# Altium footprint library Symbol.PcbLib: 206 footprints (part 9 of 15)
Each footprint in its own frame and in the unit in brackets; x right, y up, seen from the top. Pads: shape width x height; smd on the part's side, far side on the other; paste and mask are expansions set on the pad; w line width, h text height; cw(c..) or ccw(c..) is an arc to the next point about the centre after c.
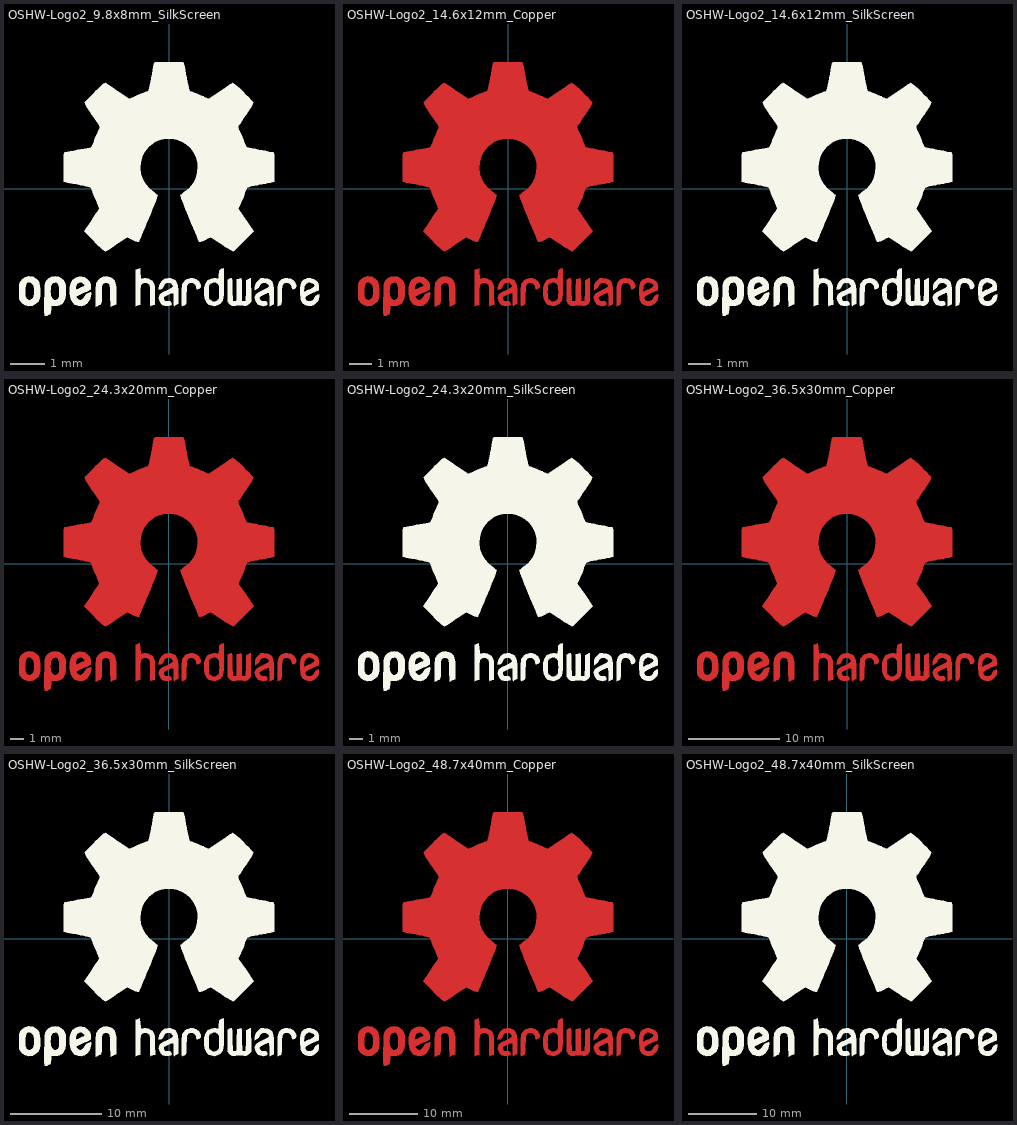
[diagram p8: the footprints below, top view; thin cyan lines are the x and y axes]

## OSHW-Logo2_9.8x8mm_SilkScreen [mm]
F.SilkS:
  drawing of 13 lines, arcs and shapes, not listed

## OSHW-Logo2_14.6x12mm_Copper [mm]
F.Cu:
  region: 5.336,-3.94 5.371,-3.955 5.454,-4.021 5.525,-4.117 5.569,-4.218 5.576,-4.269 5.552,-4.339 5.5,-4.376 5.443,-4.398 5.417,-4.402 5.405,-4.372 5.38,-4.307 5.369,-4.277 5.308,-4.175 5.219,-4.124 5.105,-4.126 5.097,-4.128 5.036,-4.157 4.991,-4.213 4.961,-4.303 4.943,-4.435 4.935,-4.614 4.934,-4.709 4.934,-4.86 4.931,-4.962 4.925,-5.028 4.912,-5.066 4.892,-5.088 4.861,-5.104 4.86,-5.105 4.801,-5.129 4.772,-5.138 4.768,-5.111 4.764,-5.035 4.761,-4.92 4.759,-4.775 4.759,-4.67 4.761,-4.466 4.767,-4.311 4.782,-4.196 4.806,-4.113 4.842,-4.051 4.893,-4.003 4.943,-3.969 5.063,-3.925 5.204,-3.915
  region: -2.583,-3.878 -2.489,-3.932 -2.424,-3.986 -2.376,-4.042 -2.343,-4.111 -2.323,-4.202 -2.311,-4.327 -2.307,-4.493 -2.306,-4.613 -2.306,-5.054 -2.431,-5.109 -2.555,-5.165 -2.569,-4.682 -2.575,-4.502 -2.582,-4.371 -2.589,-4.281 -2.6,-4.222 -2.614,-4.185 -2.634,-4.163 -2.64,-4.158 -2.736,-4.12 -2.833,-4.135 -2.89,-4.175 -2.914,-4.203 -2.93,-4.241 -2.94,-4.297 -2.946,-4.383 -2.948,-4.51 -2.949,-4.641 -2.949,-4.806 -2.952,-4.923 -2.961,-5.002 -2.981,-5.052 -3.015,-5.086 -3.068,-5.112 -3.138,-5.138 -3.215,-5.168 -3.206,-4.649 -3.202,-4.463 -3.198,-4.324 -3.192,-4.226 -3.183,-4.156 -3.169,-4.107 -3.15,-4.067 -3.127,-4.033 -3.015,-3.922 -2.878,-3.858 -2.73,-3.842
  region: 1.066,-3.922 1.199,-3.971 1.306,-4.057 1.348,-4.118 1.394,-4.23 1.393,-4.311 1.345,-4.365 1.327,-4.375 1.25,-4.403 1.211,-4.396 1.198,-4.348 1.197,-4.321 1.173,-4.223 1.109,-4.154 1.021,-4.12 0.923,-4.129 0.843,-4.172 0.816,-4.197 0.796,-4.227 0.783,-4.273 0.775,-4.343 0.77,-4.45 0.765,-4.602 0.764,-4.65 0.76,-4.815 0.756,-4.931 0.749,-5.008 0.738,-5.055 0.722,-5.082 0.698,-5.098 0.683,-5.105 0.618,-5.13 0.58,-5.138 0.567,-5.111 0.559,-5.029 0.556,-4.89 0.558,-4.694 0.559,-4.664 0.563,-4.485 0.569,-4.355 0.576,-4.262 0.587,-4.198 0.603,-4.151 0.626,-4.111 0.637,-4.094 0.705,-4.019 0.78,-3.961 0.789,-3.956 0.924,-3.915
  region: 3.58,-3.94 3.585,-4.017 3.588,-4.133 3.59,-4.281 3.591,-4.435 3.591,-4.959 3.499,-5.051 3.435,-5.108 3.379,-5.131 3.303,-5.13 3.272,-5.126 3.178,-5.115 3.099,-5.109 3.08,-5.108 3.016,-5.112 2.924,-5.121 2.888,-5.126 2.8,-5.133 2.741,-5.118 2.683,-5.072 2.662,-5.051 2.569,-4.959 2.569,-3.98 2.644,-3.946 2.708,-3.921 2.745,-3.912 2.755,-3.94 2.764,-4.018 2.771,-4.136 2.777,-4.288 2.78,-4.416 2.788,-4.919 2.858,-4.929 2.921,-4.922 2.952,-4.9 2.961,-4.858 2.968,-4.77 2.974,-4.645 2.977,-4.496 2.977,-4.419 2.978,-3.976 3.07,-3.944 3.135,-3.922 3.17,-3.912 3.171,-3.912 3.175,-3.94 3.179,-4.016 3.183,-4.133 3.186,-4.279 3.189,-4.416 3.197,-4.919 3.372,-4.919 3.38,-4.46 3.388,-4.001 3.474,-3.956 3.537,-3.926 3.574,-3.912 3.575,-3.912
  region: -1.255,-3.724 -1.247,-3.843 -1.237,-3.914 -1.223,-3.944 -1.203,-3.945 -1.197,-3.941 -1.111,-3.914 -0.999,-3.916 -0.886,-3.943 -0.814,-3.978 -0.742,-4.035 -0.688,-4.099 -0.652,-4.18 -0.629,-4.288 -0.617,-4.433 -0.613,-4.624 -0.613,-4.661 -0.613,-5.074 -0.705,-5.106 -0.77,-5.128 -0.806,-5.138 -0.807,-5.138 -0.811,-5.111 -0.814,-5.035 -0.816,-4.921 -0.817,-4.778 -0.817,-4.691 -0.818,-4.52 -0.82,-4.397 -0.825,-4.313 -0.834,-4.258 -0.849,-4.221 -0.871,-4.193 -0.885,-4.18 -0.979,-4.126 -1.082,-4.122 -1.175,-4.168 -1.192,-4.184 -1.217,-4.215 -1.235,-4.252 -1.246,-4.304 -1.252,-4.384 -1.255,-4.501 -1.255,-4.663 -1.255,-5.074 -1.347,-5.106 -1.413,-5.128 -1.448,-5.138 -1.45,-5.138 -1.452,-5.11 -1.455,-5.032 -1.457,-4.909 -1.458,-4.751 -1.459,-4.565 -1.46,-4.358 -1.46,-4.349 -1.46,-3.559 -1.365,-3.519 -1.27,-3.479
  region: -5.952,-3.866 -5.815,-3.938 -5.714,-4.054 -5.678,-4.128 -5.65,-4.24 -5.636,-4.381 -5.635,-4.535 -5.645,-4.686 -5.668,-4.816 -5.701,-4.91 -5.711,-4.926 -5.833,-5.046 -5.977,-5.118 -6.133,-5.139 -6.291,-5.107 -6.335,-5.087 -6.42,-5.027 -6.496,-4.947 -6.503,-4.937 -6.532,-4.888 -6.551,-4.836 -6.562,-4.767 -6.567,-4.669 -6.569,-4.528 -6.569,-4.496 -6.569,-4.486 -6.568,-4.346 -6.563,-4.241 -6.553,-4.168 -6.536,-4.114 -6.509,-4.067 -6.503,-4.058 -6.404,-3.939 -6.296,-3.87 -6.164,-3.843 -6.119,-3.841 hole: -6.109,-4.117 -6.181,-4.128 -6.23,-4.167 -6.26,-4.242 -6.274,-4.361 -6.277,-4.486 -6.275,-4.619 -6.269,-4.708 -6.255,-4.765 -6.231,-4.804 -6.219,-4.817 -6.149,-4.867 -6.081,-4.865 -6.012,-4.822 -5.971,-4.775 -5.947,-4.708 -5.934,-4.601 -5.933,-4.589 -5.93,-4.396 -5.955,-4.253 -6.005,-4.16 -6.082,-4.119
  region: 6.343,-3.957 6.459,-4.032 6.515,-4.1 6.559,-4.222 6.562,-4.319 6.554,-4.449 6.255,-4.58 6.11,-4.647 6.015,-4.701 5.965,-4.747 5.957,-4.793 5.984,-4.843 6.014,-4.876 6.102,-4.929 6.198,-4.932 6.286,-4.891 6.351,-4.809 6.362,-4.78 6.418,-4.69 6.482,-4.651 6.569,-4.618 6.569,-4.743 6.561,-4.828 6.531,-4.9 6.468,-4.982 6.458,-4.993 6.388,-5.066 6.327,-5.106 6.251,-5.124 6.188,-5.13 6.075,-5.131 5.995,-5.113 5.945,-5.085 5.867,-5.024 5.812,-4.958 5.778,-4.874 5.759,-4.762 5.752,-4.609 5.752,-4.531 5.754,-4.438 5.755,-4.349 5.769,-4.215 5.797,-4.117 5.842,-4.045 5.907,-3.988 5.935,-3.969 6.065,-3.921 6.206,-3.918 hole: 6.194,-4.116 6.095,-4.124 6.013,-4.18 5.956,-4.279 5.937,-4.357 5.93,-4.438 5.932,-4.488 5.937,-4.496 5.971,-4.485 6.043,-4.455 6.14,-4.414 6.16,-4.405 6.282,-4.342 6.35,-4.288 6.364,-4.237 6.329,-4.185 6.3,-4.162
  region: 2.394,-4.154 2.394,-4.373 2.392,-4.541 2.389,-4.666 2.384,-4.757 2.375,-4.822 2.364,-4.869 2.348,-4.906 2.336,-4.927 2.236,-5.041 2.111,-5.112 1.971,-5.138 1.832,-5.114 1.749,-5.072 1.662,-4.999 1.602,-4.911 1.566,-4.794 1.55,-4.639 1.547,-4.525 1.548,-4.517 1.555,-4.342 1.578,-4.204 1.624,-4.101 1.694,-4.02 1.749,-3.978 1.848,-3.934 1.964,-3.913 2.071,-3.919 2.131,-3.941 2.155,-3.947 2.17,-3.924 2.181,-3.86 2.19,-3.763 2.199,-3.655 2.211,-3.589 2.234,-3.552 2.274,-3.528 2.299,-3.517 2.394,-3.477 hole: 1.936,-4.121 1.838,-4.164 1.819,-4.18 1.787,-4.215 1.767,-4.258 1.757,-4.32 1.752,-4.417 1.752,-4.517 1.753,-4.648 1.759,-4.734 1.772,-4.791 1.795,-4.832 1.823,-4.862 1.918,-4.922 2.019,-4.927 2.115,-4.877 2.122,-4.871 2.154,-4.836 2.174,-4.794 2.185,-4.732 2.189,-4.636 2.19,-4.529 2.188,-4.396 2.182,-4.307 2.169,-4.248 2.145,-4.206 2.126,-4.184 2.038,-4.128
  region: -3.684,-3.885 -3.569,-3.962 -3.48,-4.074 -3.427,-4.216 -3.417,-4.321 -3.418,-4.365 -3.428,-4.398 -3.456,-4.428 -3.511,-4.461 -3.601,-4.505 -3.736,-4.565 -3.737,-4.565 -3.861,-4.622 -3.963,-4.673 -4.032,-4.711 -4.058,-4.733 -4.035,-4.78 -3.982,-4.831 -3.921,-4.868 -3.889,-4.876 -3.805,-4.85 -3.732,-4.786 -3.696,-4.716 -3.662,-4.664 -3.595,-4.605 -3.516,-4.554 -3.446,-4.527 -3.432,-4.525 -3.415,-4.55 -3.414,-4.614 -3.426,-4.701 -3.449,-4.792 -3.48,-4.873 -3.482,-4.877 -3.575,-5.007 -3.696,-5.095 -3.833,-5.139 -3.975,-5.134 -4.112,-5.077 -4.118,-5.073 -4.225,-4.975 -4.296,-4.848 -4.335,-4.682 -4.34,-4.635 -4.349,-4.413 -4.338,-4.31 -4.33,-4.236 -4.281,-4.096 -4.213,-3.997 -4.09,-3.898 -3.954,-3.849 -3.816,-3.846 hole: -3.915,-4.119 -3.991,-4.157 -4.043,-4.23 -4.058,-4.31 -4.055,-4.375 -4.035,-4.393 -3.985,-4.379 -3.907,-4.346 -3.819,-4.304 -3.817,-4.303 -3.743,-4.264 -3.713,-4.238 -3.721,-4.211 -3.751,-4.175 -3.83,-4.123
  region: 0.08,-3.924 0.194,-3.967 0.196,-3.968 0.266,-4.02 0.319,-4.081 0.355,-4.16 0.38,-4.267 0.394,-4.413 0.403,-4.605 0.404,-4.633 0.414,-5.047 0.325,-5.092 0.261,-5.123 0.222,-5.138 0.22,-5.138 0.214,-5.111 0.208,-5.038 0.205,-4.931 0.204,-4.844 0.204,-4.704 0.198,-4.616 0.176,-4.574 0.128,-4.572 0.045,-4.604 -0.08,-4.662 -0.172,-4.711 -0.22,-4.753 -0.234,-4.799 -0.234,-4.801 -0.211,-4.88 -0.143,-4.923 -0.039,-4.929 0.036,-4.928 0.076,-4.95 0.1,-5.002 0.115,-5.068 0.094,-5.105 0.087,-5.11 0.014,-5.132 -0.087,-5.135 -0.192,-5.121 -0.266,-5.095 -0.368,-5.008 -0.426,-4.887 -0.438,-4.792 -0.429,-4.707 -0.397,-4.637 -0.334,-4.576 -0.232,-4.514 -0.082,-4.444 -0.073,-4.44 0.062,-4.378 0.145,-4.326 0.181,-4.28 0.173,-4.234 0.126,-4.18 0.112,-4.168 0.017,-4.12 -0.081,-4.122 -0.166,-4.169 -0.223,-4.256 -0.228,-4.273 -0.279,-4.356 -0.344,-4.395 -0.438,-4.435 -0.438,-4.333 -0.409,-4.184 -0.325,-4.048 -0.28,-4.002 -0.18,-3.944 -0.052,-3.917
  region: -4.828,-3.862 -4.717,-3.918 -4.618,-4.02 -4.591,-4.058 -4.561,-4.108 -4.542,-4.161 -4.531,-4.233 -4.526,-4.337 -4.525,-4.474 -4.53,-4.662 -4.547,-4.803 -4.58,-4.908 -4.632,-4.988 -4.706,-5.055 -4.711,-5.059 -4.785,-5.099 -4.873,-5.119 -4.985,-5.124 -5.167,-5.124 -5.168,-5.301 -5.169,-5.399 -5.18,-5.457 -5.207,-5.492 -5.258,-5.521 -5.271,-5.527 -5.329,-5.555 -5.374,-5.573 -5.407,-5.574 -5.431,-5.554 -5.446,-5.506 -5.454,-5.424 -5.458,-5.303 -5.457,-5.136 -5.454,-4.919 -5.454,-4.854 -5.451,-4.63 -5.448,-4.483 -5.448,-4.456 -5.444,-4.325 -5.438,-4.23 -5.43,-4.162 -5.419,-4.115 -5.405,-4.079 -5.385,-4.048 -5.377,-4.036 -5.267,-3.925 -5.129,-3.862 -4.968,-3.844 hole: -4.979,-4.117 -5.061,-4.131 -5.118,-4.181 -5.151,-4.27 -5.166,-4.407 -5.168,-4.483 -5.166,-4.607 -5.159,-4.689 -5.143,-4.743 -5.115,-4.784 -5.096,-4.804 -5.018,-4.863 -4.949,-4.868 -4.877,-4.819 -4.876,-4.817 -4.847,-4.78 -4.829,-4.728 -4.82,-4.65 -4.817,-4.529 -4.817,-4.503 -4.824,-4.337 -4.846,-4.222 -4.885,-4.151 -4.945,-4.12
  region: 4.314,-3.935 4.398,-3.973 4.464,-4.02 4.513,-4.072 4.546,-4.138 4.567,-4.23 4.579,-4.355 4.583,-4.525 4.584,-4.636 4.584,-5.071 4.509,-5.105 4.451,-5.129 4.422,-5.138 4.416,-5.111 4.412,-5.038 4.409,-4.931 4.409,-4.846 4.406,-4.724 4.399,-4.627 4.39,-4.567 4.382,-4.554 4.33,-4.567 4.249,-4.601 4.155,-4.645 4.065,-4.694 3.995,-4.737 3.963,-4.767 3.965,-4.822 3.99,-4.874 4.035,-4.917 4.099,-4.931 4.154,-4.929 4.232,-4.928 4.273,-4.946 4.297,-4.995 4.3,-5.004 4.311,-5.073 4.283,-5.114 4.208,-5.134 4.128,-5.138 3.984,-5.111 3.909,-5.072 3.817,-4.98 3.768,-4.868 3.764,-4.749 3.805,-4.638 3.867,-4.569 3.929,-4.53 4.027,-4.481 4.141,-4.431 4.16,-4.424 4.285,-4.369 4.357,-4.32 4.38,-4.272 4.358,-4.217 4.321,-4.175 4.233,-4.123 4.137,-4.119 4.048,-4.159 3.984,-4.239 3.976,-4.26 3.927,-4.336 3.856,-4.393 3.766,-4.439 3.766,-4.308 3.771,-4.227 3.794,-4.164 3.844,-4.096 3.893,-4.044 3.968,-3.97 4.026,-3.931 4.088,-3.915 4.159,-3.912
  region: 346 vertices and 0 holes, not listed, extent -4.613,-2.744 4.613,5.547

## OSHW-Logo2_14.6x12mm_SilkScreen [mm]
F.SilkS:
  drawing of 13 lines, arcs and shapes, not listed

## OSHW-Logo2_24.3x20mm_Copper [mm]
F.Cu:
  region: 8.893,-6.567 8.951,-6.592 9.09,-6.702 9.209,-6.861 9.282,-7.031 9.294,-7.114 9.254,-7.231 9.166,-7.293 9.072,-7.33 9.029,-7.337 9.008,-7.287 8.966,-7.178 8.948,-7.129 8.846,-6.959 8.698,-6.874 8.509,-6.877 8.495,-6.88 8.393,-6.928 8.319,-7.021 8.268,-7.172 8.238,-7.391 8.225,-7.69 8.223,-7.849 8.223,-8.1 8.219,-8.271 8.208,-8.379 8.187,-8.443 8.153,-8.48 8.102,-8.506 8.099,-8.508 8.002,-8.549 7.953,-8.564 7.946,-8.518 7.94,-8.391 7.935,-8.199 7.932,-7.959 7.931,-7.783 7.934,-7.443 7.946,-7.184 7.969,-6.993 8.009,-6.854 8.07,-6.752 8.154,-6.672 8.238,-6.616 8.439,-6.541 8.673,-6.524
  region: -4.304,-6.463 -4.148,-6.553 -4.04,-6.643 -3.96,-6.737 -3.905,-6.852 -3.871,-7.004 -3.852,-7.211 -3.845,-7.488 -3.844,-7.688 -3.844,-8.423 -4.051,-8.515 -4.258,-8.608 -4.282,-7.803 -4.292,-7.503 -4.303,-7.285 -4.316,-7.134 -4.333,-7.036 -4.357,-6.976 -4.39,-6.938 -4.401,-6.93 -4.56,-6.866 -4.721,-6.891 -4.817,-6.958 -4.856,-7.006 -4.883,-7.068 -4.9,-7.162 -4.91,-7.306 -4.914,-7.516 -4.915,-7.735 -4.915,-8.01 -4.919,-8.205 -4.935,-8.336 -4.968,-8.421 -5.026,-8.476 -5.113,-8.519 -5.231,-8.564 -5.359,-8.613 -5.343,-7.749 -5.337,-7.438 -5.33,-7.207 -5.32,-7.043 -5.304,-6.927 -5.282,-6.844 -5.25,-6.779 -5.211,-6.721 -5.025,-6.536 -4.797,-6.429 -4.55,-6.404
  region: 1.777,-6.537 1.998,-6.618 2.177,-6.762 2.247,-6.864 2.323,-7.05 2.321,-7.185 2.241,-7.276 2.212,-7.291 2.084,-7.339 2.018,-7.327 1.996,-7.246 1.995,-7.202 1.954,-7.038 1.849,-6.923 1.702,-6.867 1.538,-6.881 1.404,-6.954 1.359,-6.995 1.327,-7.045 1.306,-7.121 1.292,-7.239 1.283,-7.417 1.276,-7.67 1.274,-7.75 1.267,-8.025 1.26,-8.218 1.248,-8.346 1.23,-8.425 1.203,-8.47 1.163,-8.497 1.138,-8.509 1.03,-8.55 0.966,-8.564 0.945,-8.519 0.932,-8.381 0.927,-8.15 0.931,-7.824 0.932,-7.773 0.939,-7.476 0.948,-7.258 0.96,-7.104 0.978,-6.996 1.005,-6.918 1.043,-6.852 1.062,-6.824 1.174,-6.698 1.3,-6.601 1.315,-6.593 1.54,-6.525
  region: -2.092,-6.206 -2.078,-6.405 -2.062,-6.523 -2.039,-6.574 -2.006,-6.574 -1.995,-6.568 -1.852,-6.524 -1.665,-6.527 -1.476,-6.572 -1.357,-6.631 -1.236,-6.725 -1.147,-6.831 -1.086,-6.966 -1.048,-7.146 -1.028,-7.388 -1.022,-7.707 -1.022,-7.769 -1.022,-8.457 -1.175,-8.511 -1.284,-8.547 -1.344,-8.564 -1.345,-8.564 -1.351,-8.518 -1.356,-8.392 -1.36,-8.201 -1.362,-7.963 -1.362,-7.818 -1.363,-7.533 -1.367,-7.328 -1.375,-7.188 -1.391,-7.096 -1.416,-7.035 -1.452,-6.989 -1.475,-6.967 -1.632,-6.877 -1.803,-6.871 -1.958,-6.946 -1.987,-6.974 -2.029,-7.025 -2.058,-7.086 -2.076,-7.174 -2.087,-7.307 -2.091,-7.502 -2.092,-7.772 -2.092,-8.457 -2.246,-8.511 -2.354,-8.547 -2.414,-8.564 -2.416,-8.564 -2.42,-8.517 -2.424,-8.386 -2.428,-8.182 -2.431,-7.919 -2.432,-7.608 -2.433,-7.263 -2.433,-7.248 -2.433,-5.932 -2.117,-5.798
  region: 5.967,-6.566 5.974,-6.694 5.98,-6.889 5.984,-7.135 5.985,-7.392 5.985,-8.265 5.831,-8.419 5.725,-8.513 5.632,-8.552 5.505,-8.549 5.454,-8.543 5.296,-8.525 5.165,-8.515 5.134,-8.514 5.026,-8.52 4.873,-8.536 4.813,-8.543 4.667,-8.555 4.569,-8.53 4.471,-8.453 4.436,-8.419 4.282,-8.265 4.282,-6.633 4.406,-6.577 4.513,-6.535 4.575,-6.52 4.591,-6.567 4.606,-6.696 4.619,-6.894 4.629,-7.146 4.634,-7.36 4.647,-8.199 4.763,-8.215 4.869,-8.204 4.92,-8.167 4.935,-8.097 4.947,-7.949 4.957,-7.741 4.962,-7.493 4.962,-7.364 4.963,-6.627 5.116,-6.574 5.225,-6.537 5.284,-6.52 5.286,-6.52 5.292,-6.566 5.298,-6.694 5.305,-6.888 5.311,-7.132 5.315,-7.36 5.328,-8.199 5.62,-8.199 5.634,-7.433 5.647,-6.668 5.789,-6.594 5.894,-6.543 5.957,-6.52 5.958,-6.52
  region: -9.92,-6.443 -9.692,-6.563 -9.523,-6.756 -9.463,-6.88 -9.417,-7.067 -9.393,-7.302 -9.391,-7.559 -9.409,-7.81 -9.446,-8.027 -9.502,-8.183 -9.519,-8.21 -9.721,-8.41 -9.961,-8.531 -10.221,-8.566 -10.485,-8.511 -10.558,-8.479 -10.701,-8.378 -10.826,-8.245 -10.838,-8.228 -10.886,-8.147 -10.918,-8.06 -10.937,-7.945 -10.946,-7.782 -10.948,-7.546 -10.948,-7.493 -10.948,-7.477 -10.946,-7.243 -10.939,-7.068 -10.922,-6.946 -10.893,-6.857 -10.849,-6.778 -10.839,-6.763 -10.673,-6.565 -10.493,-6.45 -10.273,-6.404 -10.199,-6.402 hole: -10.182,-6.861 -10.301,-6.88 -10.383,-6.945 -10.433,-7.071 -10.457,-7.269 -10.462,-7.477 -10.459,-7.699 -10.448,-7.846 -10.424,-7.941 -10.385,-8.007 -10.364,-8.029 -10.248,-8.112 -10.135,-8.108 -10.021,-8.036 -9.952,-7.959 -9.912,-7.846 -9.889,-7.669 -9.888,-7.648 -9.884,-7.327 -9.924,-7.088 -10.009,-6.934 -10.136,-6.865
  region: 10.572,-6.594 10.765,-6.72 10.858,-6.833 10.931,-7.037 10.937,-7.199 10.924,-7.415 10.425,-7.633 10.183,-7.745 10.024,-7.835 9.942,-7.912 9.928,-7.988 9.973,-8.071 10.024,-8.126 10.171,-8.214 10.33,-8.221 10.477,-8.152 10.585,-8.015 10.604,-7.967 10.696,-7.816 10.803,-7.752 10.948,-7.697 10.948,-7.905 10.935,-8.047 10.885,-8.167 10.779,-8.304 10.763,-8.322 10.646,-8.444 10.545,-8.51 10.418,-8.54 10.313,-8.55 10.126,-8.552 9.992,-8.521 9.909,-8.475 9.778,-8.373 9.687,-8.263 9.63,-8.124 9.599,-7.937 9.587,-7.682 9.586,-7.552 9.589,-7.396 9.592,-7.249 9.616,-7.025 9.661,-6.862 9.736,-6.741 9.845,-6.646 9.892,-6.616 10.108,-6.536 10.344,-6.531 hole: 10.324,-6.86 10.159,-6.873 10.021,-6.966 9.926,-7.131 9.895,-7.262 9.883,-7.396 9.887,-7.48 9.895,-7.493 9.951,-7.475 10.072,-7.426 10.233,-7.356 10.267,-7.341 10.47,-7.237 10.583,-7.146 10.607,-7.061 10.548,-6.975 10.5,-6.937
  region: 3.99,-6.924 3.989,-7.288 3.987,-7.568 3.982,-7.777 3.973,-7.929 3.959,-8.037 3.939,-8.115 3.913,-8.177 3.893,-8.212 3.727,-8.401 3.518,-8.52 3.285,-8.563 3.053,-8.524 2.915,-8.454 2.769,-8.332 2.67,-8.184 2.61,-7.991 2.583,-7.732 2.579,-7.542 2.58,-7.529 2.591,-7.237 2.631,-7.007 2.706,-6.834 2.823,-6.7 2.915,-6.631 3.081,-6.556 3.273,-6.522 3.452,-6.531 3.552,-6.568 3.591,-6.579 3.617,-6.539 3.636,-6.433 3.649,-6.271 3.664,-6.091 3.685,-5.982 3.724,-5.92 3.79,-5.879 3.832,-5.861 3.99,-5.795 hole: 3.226,-6.869 3.063,-6.94 3.032,-6.967 2.979,-7.026 2.946,-7.096 2.928,-7.2 2.921,-7.362 2.92,-7.529 2.922,-7.746 2.931,-7.89 2.953,-7.984 2.992,-8.053 3.039,-8.104 3.196,-8.203 3.365,-8.212 3.524,-8.129 3.537,-8.118 3.59,-8.059 3.623,-7.99 3.641,-7.886 3.648,-7.726 3.649,-7.549 3.647,-7.326 3.637,-7.178 3.614,-7.08 3.575,-7.011 3.544,-6.974 3.396,-6.88
  region: -6.141,-6.474 -5.949,-6.604 -5.801,-6.79 -5.712,-7.027 -5.694,-7.202 -5.696,-7.275 -5.713,-7.33 -5.76,-7.38 -5.851,-7.436 -6.002,-7.508 -6.227,-7.608 -6.228,-7.609 -6.435,-7.703 -6.605,-7.788 -6.72,-7.852 -6.764,-7.888 -6.726,-7.966 -6.636,-8.052 -6.534,-8.114 -6.482,-8.126 -6.341,-8.084 -6.22,-7.977 -6.16,-7.86 -6.103,-7.774 -5.991,-7.676 -5.86,-7.591 -5.744,-7.545 -5.719,-7.542 -5.692,-7.584 -5.69,-7.691 -5.71,-7.834 -5.748,-7.987 -5.8,-8.122 -5.803,-8.128 -5.958,-8.345 -6.159,-8.492 -6.388,-8.565 -6.626,-8.556 -6.853,-8.461 -6.863,-8.454 -7.042,-8.292 -7.16,-8.081 -7.225,-7.803 -7.234,-7.724 -7.249,-7.356 -7.231,-7.184 -7.217,-7.06 -7.136,-6.826 -7.022,-6.662 -6.817,-6.497 -6.591,-6.415 -6.36,-6.409 hole: -6.524,-6.866 -6.651,-6.929 -6.738,-7.05 -6.764,-7.184 -6.758,-7.291 -6.724,-7.322 -6.642,-7.299 -6.511,-7.243 -6.365,-7.174 -6.362,-7.172 -6.238,-7.107 -6.189,-7.064 -6.201,-7.018 -6.252,-6.959 -6.383,-6.872
  region: 0.133,-6.541 0.324,-6.611 0.326,-6.613 0.444,-6.7 0.531,-6.801 0.592,-6.933 0.633,-7.112 0.657,-7.354 0.671,-7.675 0.673,-7.721 0.69,-8.411 0.542,-8.487 0.435,-8.539 0.37,-8.564 0.367,-8.564 0.356,-8.519 0.347,-8.397 0.342,-8.218 0.341,-8.074 0.341,-7.84 0.33,-7.693 0.293,-7.623 0.213,-7.62 0.075,-7.673 -0.134,-7.77 -0.287,-7.851 -0.366,-7.922 -0.389,-7.998 -0.389,-8.002 -0.351,-8.134 -0.238,-8.205 -0.064,-8.215 0.061,-8.214 0.126,-8.25 0.167,-8.336 0.191,-8.446 0.157,-8.509 0.144,-8.517 0.023,-8.553 -0.146,-8.558 -0.32,-8.535 -0.443,-8.491 -0.614,-8.346 -0.711,-8.145 -0.73,-7.987 -0.715,-7.845 -0.662,-7.729 -0.557,-7.626 -0.387,-7.523 -0.137,-7.406 -0.122,-7.4 0.103,-7.296 0.242,-7.211 0.302,-7.134 0.289,-7.056 0.21,-6.967 0.186,-6.946 0.029,-6.866 -0.134,-6.87 -0.277,-6.948 -0.371,-7.093 -0.38,-7.121 -0.465,-7.259 -0.573,-7.326 -0.73,-7.391 -0.73,-7.221 -0.682,-6.973 -0.541,-6.746 -0.467,-6.67 -0.3,-6.573 -0.087,-6.529
  region: -8.047,-6.437 -7.861,-6.529 -7.697,-6.7 -7.652,-6.763 -7.602,-6.846 -7.57,-6.936 -7.552,-7.056 -7.544,-7.229 -7.542,-7.457 -7.55,-7.77 -7.579,-8.005 -7.633,-8.18 -7.719,-8.314 -7.843,-8.425 -7.852,-8.431 -7.974,-8.498 -8.121,-8.531 -8.308,-8.54 -8.612,-8.54 -8.613,-8.835 -8.615,-8.999 -8.633,-9.096 -8.678,-9.153 -8.764,-9.202 -8.785,-9.212 -8.882,-9.258 -8.957,-9.288 -9.012,-9.29 -9.052,-9.256 -9.077,-9.176 -9.091,-9.04 -9.096,-8.838 -9.095,-8.56 -9.091,-8.198 -9.089,-8.09 -9.085,-7.716 -9.08,-7.471 -9.08,-7.427 -9.073,-7.209 -9.064,-7.05 -9.05,-6.937 -9.032,-6.858 -9.007,-6.798 -8.975,-6.746 -8.962,-6.726 -8.779,-6.541 -8.548,-6.436 -8.28,-6.407 hole: -8.299,-6.861 -8.436,-6.886 -8.529,-6.968 -8.586,-7.117 -8.61,-7.346 -8.613,-7.471 -8.61,-7.679 -8.598,-7.815 -8.572,-7.904 -8.525,-7.973 -8.493,-8.007 -8.363,-8.105 -8.248,-8.113 -8.129,-8.032 -8.126,-8.029 -8.078,-7.966 -8.048,-7.881 -8.033,-7.75 -8.029,-7.549 -8.029,-7.504 -8.04,-7.228 -8.076,-7.036 -8.142,-6.919 -8.242,-6.866
  region: 7.191,-6.559 7.331,-6.622 7.441,-6.7 7.521,-6.786 7.577,-6.897 7.612,-7.05 7.631,-7.259 7.639,-7.541 7.639,-7.727 7.639,-8.451 7.516,-8.508 7.418,-8.549 7.37,-8.564 7.36,-8.519 7.353,-8.397 7.348,-8.219 7.348,-8.077 7.343,-7.873 7.332,-7.711 7.316,-7.612 7.303,-7.591 7.217,-7.612 7.082,-7.668 6.925,-7.742 6.775,-7.823 6.659,-7.895 6.604,-7.944 6.604,-7.945 6.609,-8.036 6.651,-8.124 6.724,-8.195 6.832,-8.219 6.923,-8.216 7.053,-8.214 7.121,-8.244 7.162,-8.325 7.167,-8.34 7.185,-8.454 7.138,-8.524 7.014,-8.557 6.88,-8.563 6.64,-8.518 6.515,-8.453 6.362,-8.3 6.28,-8.113 6.273,-7.915 6.342,-7.731 6.445,-7.615 6.549,-7.55 6.711,-7.469 6.901,-7.385 6.933,-7.373 7.141,-7.281 7.261,-7.2 7.3,-7.119 7.263,-7.029 7.202,-6.958 7.055,-6.871 6.894,-6.865 6.747,-6.932 6.64,-7.066 6.626,-7.1 6.545,-7.227 6.427,-7.321 6.277,-7.399 6.277,-7.179 6.286,-7.045 6.324,-6.94 6.407,-6.827 6.488,-6.74 6.613,-6.617 6.71,-6.551 6.814,-6.525 6.932,-6.52
  region: 347 vertices and 0 holes, not listed, extent -7.688,-4.574 7.688,9.245

## OSHW-Logo2_24.3x20mm_SilkScreen [mm]
F.SilkS:
  drawing of 13 lines, arcs and shapes, not listed

## OSHW-Logo2_36.5x30mm_Copper [mm]
F.Cu:
  region: 13.339,-9.85 13.426,-9.888 13.635,-10.053 13.813,-10.292 13.923,-10.546 13.941,-10.671 13.881,-10.847 13.749,-10.939 13.608,-10.995 13.543,-11.006 13.511,-10.931 13.449,-10.767 13.422,-10.694 13.269,-10.438 13.047,-10.311 12.763,-10.315 12.742,-10.32 12.59,-10.392 12.479,-10.532 12.403,-10.758 12.357,-11.086 12.337,-11.535 12.335,-11.774 12.334,-12.15 12.328,-12.406 12.312,-12.569 12.281,-12.665 12.23,-12.719 12.154,-12.759 12.149,-12.761 12.003,-12.823 11.93,-12.846 11.919,-12.777 11.909,-12.587 11.902,-12.299 11.898,-11.938 11.897,-11.675 11.901,-11.164 11.918,-10.777 11.954,-10.49 12.014,-10.281 12.105,-10.128 12.232,-10.008 12.357,-9.923 12.658,-9.812 13.009,-9.786
  region: -6.456,-9.694 -6.222,-9.83 -6.059,-9.964 -5.94,-10.105 -5.858,-10.277 -5.806,-10.506 -5.778,-10.816 -5.767,-11.233 -5.766,-11.532 -5.766,-12.634 -6.076,-12.773 -6.386,-12.912 -6.423,-11.705 -6.438,-11.254 -6.454,-10.927 -6.473,-10.701 -6.5,-10.554 -6.536,-10.464 -6.585,-10.407 -6.601,-10.395 -6.84,-10.299 -7.082,-10.337 -7.226,-10.437 -7.284,-10.508 -7.325,-10.602 -7.351,-10.743 -7.365,-10.958 -7.371,-11.274 -7.372,-11.603 -7.372,-12.015 -7.379,-12.307 -7.403,-12.504 -7.453,-12.631 -7.539,-12.714 -7.67,-12.779 -7.846,-12.846 -8.038,-12.919 -8.015,-11.623 -8.006,-11.156 -7.995,-10.811 -7.98,-10.564 -7.956,-10.39 -7.922,-10.266 -7.874,-10.168 -7.816,-10.081 -7.537,-9.804 -7.196,-9.644 -6.825,-9.606
  region: 2.665,-9.805 2.996,-9.927 3.265,-10.144 3.37,-10.296 3.485,-10.575 3.482,-10.778 3.362,-10.913 3.318,-10.937 3.126,-11.009 3.027,-10.99 2.994,-10.869 2.993,-10.802 2.932,-10.556 2.773,-10.384 2.553,-10.301 2.307,-10.322 2.107,-10.431 2.039,-10.493 1.991,-10.568 1.959,-10.681 1.938,-10.859 1.924,-11.125 1.913,-11.505 1.911,-11.626 1.901,-12.038 1.889,-12.328 1.872,-12.52 1.846,-12.637 1.804,-12.705 1.745,-12.746 1.707,-12.764 1.544,-12.826 1.449,-12.846 1.417,-12.778 1.398,-12.572 1.391,-12.225 1.396,-11.735 1.398,-11.66 1.409,-11.213 1.422,-10.887 1.44,-10.656 1.468,-10.495 1.508,-10.377 1.564,-10.278 1.593,-10.236 1.762,-10.048 1.95,-9.902 1.973,-9.889 2.31,-9.788
  region: 8.95,-9.85 8.961,-10.042 8.97,-10.333 8.976,-10.702 8.978,-11.089 8.978,-12.397 8.747,-12.628 8.587,-12.77 8.448,-12.828 8.257,-12.824 8.181,-12.815 7.944,-12.788 7.748,-12.772 7.7,-12.771 7.539,-12.78 7.309,-12.804 7.22,-12.815 7,-12.832 6.853,-12.795 6.707,-12.68 6.654,-12.628 6.423,-12.397 6.423,-9.95 6.609,-9.865 6.769,-9.802 6.863,-9.78 6.887,-9.85 6.909,-10.044 6.928,-10.341 6.943,-10.72 6.95,-11.04 6.97,-12.299 7.145,-12.323 7.303,-12.306 7.381,-12.25 7.402,-12.146 7.421,-11.924 7.435,-11.612 7.443,-11.239 7.444,-11.047 7.445,-9.941 7.675,-9.861 7.837,-9.806 7.926,-9.781 7.928,-9.78 7.937,-9.85 7.947,-10.041 7.957,-10.331 7.966,-10.697 7.972,-11.04 7.992,-12.299 8.43,-12.299 8.45,-11.15 8.47,-10.001 8.684,-9.891 8.841,-9.815 8.935,-9.781 8.937,-9.78
  region: -3.139,-9.31 -3.117,-9.608 -3.093,-9.784 -3.059,-9.86 -3.009,-9.861 -2.993,-9.852 -2.778,-9.786 -2.498,-9.79 -2.214,-9.858 -2.036,-9.946 -1.854,-10.087 -1.721,-10.246 -1.629,-10.449 -1.572,-10.719 -1.543,-11.081 -1.533,-11.561 -1.533,-11.653 -1.533,-12.686 -1.763,-12.766 -1.926,-12.82 -2.015,-12.846 -2.018,-12.846 -2.027,-12.777 -2.034,-12.587 -2.04,-12.301 -2.043,-11.944 -2.044,-11.727 -2.045,-11.299 -2.05,-10.993 -2.063,-10.783 -2.086,-10.644 -2.124,-10.553 -2.178,-10.483 -2.213,-10.45 -2.448,-10.316 -2.704,-10.306 -2.937,-10.419 -2.98,-10.46 -3.043,-10.537 -3.087,-10.629 -3.115,-10.761 -3.13,-10.96 -3.137,-11.253 -3.139,-11.657 -3.139,-12.686 -3.368,-12.766 -3.532,-12.82 -3.621,-12.846 -3.624,-12.846 -3.631,-12.776 -3.637,-12.579 -3.642,-12.274 -3.646,-11.879 -3.648,-11.413 -3.649,-10.895 -3.649,-10.872 -3.649,-8.898 -3.412,-8.797 -3.175,-8.697
  region: -14.879,-9.665 -14.537,-9.845 -14.285,-10.134 -14.195,-10.321 -14.125,-10.6 -14.09,-10.953 -14.086,-11.338 -14.114,-11.715 -14.17,-12.041 -14.253,-12.275 -14.278,-12.315 -14.582,-12.616 -14.942,-12.796 -15.332,-12.849 -15.727,-12.767 -15.837,-12.718 -16.051,-12.568 -16.239,-12.368 -16.257,-12.343 -16.329,-12.22 -16.377,-12.09 -16.405,-11.918 -16.418,-11.672 -16.422,-11.319 -16.422,-11.24 -16.422,-11.215 -16.42,-10.864 -16.408,-10.601 -16.383,-10.419 -16.34,-10.285 -16.273,-10.167 -16.258,-10.145 -16.01,-9.848 -15.739,-9.675 -15.41,-9.607 -15.298,-9.603 hole: -15.272,-10.291 -15.451,-10.32 -15.574,-10.418 -15.649,-10.606 -15.685,-10.903 -15.693,-11.215 -15.688,-11.548 -15.672,-11.769 -15.636,-11.912 -15.577,-12.01 -15.547,-12.043 -15.372,-12.168 -15.202,-12.162 -15.031,-12.054 -14.929,-11.938 -14.868,-11.77 -14.834,-11.504 -14.832,-11.473 -14.826,-10.99 -14.887,-10.632 -15.013,-10.4 -15.204,-10.297
  region: 15.859,-9.891 16.147,-10.08 16.287,-10.249 16.397,-10.556 16.406,-10.798 16.386,-11.123 15.638,-11.45 15.274,-11.617 15.036,-11.752 14.913,-11.869 14.891,-11.982 14.96,-12.106 15.036,-12.189 15.256,-12.322 15.495,-12.331 15.716,-12.228 15.877,-12.022 15.906,-11.95 16.045,-11.724 16.204,-11.627 16.422,-11.545 16.422,-11.858 16.403,-12.07 16.327,-12.25 16.169,-12.456 16.145,-12.483 15.969,-12.666 15.817,-12.764 15.627,-12.81 15.47,-12.824 15.189,-12.828 14.988,-12.781 14.863,-12.712 14.667,-12.559 14.531,-12.394 14.445,-12.186 14.398,-11.906 14.381,-11.522 14.379,-11.328 14.384,-11.095 14.389,-10.873 14.423,-10.537 14.492,-10.292 14.604,-10.112 14.767,-9.97 14.838,-9.923 15.162,-9.804 15.516,-9.796 hole: 15.486,-10.291 15.239,-10.31 15.032,-10.449 14.889,-10.697 14.843,-10.894 14.825,-11.095 14.83,-11.22 14.843,-11.24 14.927,-11.212 15.108,-11.139 15.349,-11.034 15.4,-11.011 15.706,-10.856 15.874,-10.72 15.911,-10.592 15.822,-10.462 15.749,-10.405
  region: 5.985,-10.386 5.984,-10.932 5.98,-11.351 5.973,-11.665 5.959,-11.893 5.938,-12.056 5.909,-12.173 5.869,-12.265 5.839,-12.317 5.591,-12.602 5.276,-12.78 4.928,-12.844 4.58,-12.785 4.372,-12.68 4.154,-12.499 4.005,-12.277 3.916,-11.986 3.874,-11.598 3.869,-11.313 3.869,-11.293 3.886,-10.855 3.946,-10.51 4.059,-10.252 4.235,-10.05 4.372,-9.946 4.621,-9.834 4.91,-9.782 5.178,-9.796 5.328,-9.852 5.387,-9.868 5.426,-9.809 5.453,-9.649 5.474,-9.407 5.497,-9.136 5.528,-8.974 5.585,-8.881 5.685,-8.819 5.748,-8.792 5.985,-8.693 hole: 4.839,-10.303 4.595,-10.41 4.548,-10.45 4.468,-10.538 4.418,-10.644 4.391,-10.801 4.381,-11.044 4.379,-11.293 4.382,-11.619 4.397,-11.835 4.43,-11.977 4.488,-12.079 4.558,-12.156 4.794,-12.305 5.047,-12.317 5.287,-12.193 5.305,-12.176 5.385,-12.089 5.435,-11.985 5.461,-11.829 5.472,-11.589 5.474,-11.323 5.47,-10.99 5.455,-10.767 5.421,-10.621 5.363,-10.516 5.315,-10.46 5.094,-10.32
  region: -9.211,-9.712 -8.923,-9.905 -8.701,-10.185 -8.568,-10.541 -8.541,-10.803 -8.544,-10.912 -8.57,-10.995 -8.64,-11.07 -8.777,-11.154 -9.003,-11.262 -9.341,-11.412 -9.343,-11.413 -9.653,-11.555 -9.908,-11.681 -10.081,-11.778 -10.145,-11.832 -10.088,-11.949 -9.955,-12.078 -9.801,-12.171 -9.724,-12.189 -9.512,-12.125 -9.329,-11.966 -9.24,-11.79 -9.155,-11.661 -8.987,-11.514 -8.789,-11.386 -8.615,-11.317 -8.579,-11.313 -8.538,-11.376 -8.536,-11.536 -8.566,-11.751 -8.622,-11.981 -8.7,-12.183 -8.704,-12.191 -8.937,-12.517 -9.239,-12.738 -9.582,-12.847 -9.939,-12.834 -10.28,-12.692 -10.295,-12.682 -10.563,-12.438 -10.74,-12.121 -10.837,-11.704 -10.85,-11.587 -10.874,-11.033 -10.846,-10.775 -10.826,-10.591 -10.703,-10.24 -10.533,-9.994 -10.225,-9.745 -9.886,-9.622 -9.54,-9.614 hole: -9.787,-10.299 -9.976,-10.393 -10.108,-10.575 -10.145,-10.775 -10.136,-10.936 -10.087,-10.983 -9.962,-10.948 -9.767,-10.865 -9.548,-10.761 -9.543,-10.758 -9.357,-10.661 -9.283,-10.596 -9.301,-10.527 -9.379,-10.438 -9.575,-10.308
  region: 0.2,-9.811 0.486,-9.917 0.489,-9.919 0.666,-10.049 0.797,-10.201 0.888,-10.4 0.949,-10.668 0.986,-11.031 1.007,-11.513 1.009,-11.582 1.035,-12.616 0.813,-12.731 0.653,-12.809 0.556,-12.846 0.551,-12.846 0.534,-12.778 0.521,-12.595 0.513,-12.328 0.511,-12.111 0.511,-11.76 0.495,-11.54 0.439,-11.435 0.319,-11.43 0.112,-11.509 -0.201,-11.656 -0.431,-11.777 -0.549,-11.882 -0.584,-11.997 -0.584,-12.003 -0.527,-12.201 -0.357,-12.308 -0.097,-12.323 0.091,-12.32 0.19,-12.374 0.251,-12.504 0.287,-12.669 0.236,-12.763 0.216,-12.776 0.035,-12.83 -0.218,-12.838 -0.48,-12.802 -0.665,-12.737 -0.921,-12.519 -1.066,-12.217 -1.095,-11.981 -1.073,-11.768 -0.993,-11.594 -0.836,-11.439 -0.58,-11.284 -0.205,-11.11 -0.182,-11.1 0.155,-10.944 0.363,-10.816 0.452,-10.701 0.433,-10.584 0.315,-10.45 0.28,-10.419 0.043,-10.299 -0.201,-10.304 -0.415,-10.422 -0.556,-10.639 -0.569,-10.682 -0.697,-10.889 -0.86,-10.988 -1.095,-11.087 -1.095,-10.832 -1.023,-10.46 -0.811,-10.119 -0.701,-10.005 -0.45,-9.859 -0.131,-9.793
  region: -12.07,-9.655 -11.791,-9.794 -11.545,-10.05 -11.477,-10.145 -11.404,-10.269 -11.356,-10.404 -11.328,-10.583 -11.316,-10.843 -11.313,-11.185 -11.325,-11.655 -11.368,-12.007 -11.45,-12.27 -11.579,-12.471 -11.765,-12.637 -11.778,-12.647 -11.962,-12.747 -12.182,-12.797 -12.463,-12.809 -12.919,-12.809 -12.919,-13.252 -12.923,-13.499 -12.949,-13.643 -13.016,-13.73 -13.146,-13.803 -13.177,-13.818 -13.322,-13.888 -13.435,-13.932 -13.519,-13.935 -13.577,-13.884 -13.615,-13.764 -13.636,-13.56 -13.644,-13.257 -13.643,-12.841 -13.636,-12.297 -13.634,-12.134 -13.627,-11.574 -13.62,-11.207 -13.619,-11.14 -13.609,-10.813 -13.595,-10.575 -13.576,-10.406 -13.548,-10.286 -13.511,-10.197 -13.463,-10.119 -13.442,-10.09 -13.168,-9.812 -12.822,-9.655 -12.421,-9.611 hole: -12.449,-10.291 -12.653,-10.329 -12.794,-10.451 -12.879,-10.676 -12.916,-11.019 -12.919,-11.207 -12.915,-11.518 -12.898,-11.722 -12.858,-11.856 -12.788,-11.96 -12.74,-12.01 -12.545,-12.157 -12.372,-12.169 -12.194,-12.048 -12.189,-12.043 -12.117,-11.949 -12.072,-11.821 -12.05,-11.624 -12.043,-11.323 -12.043,-11.256 -12.06,-10.841 -12.114,-10.554 -12.213,-10.378 -12.362,-10.299
  region: 10.786,-9.838 10.996,-9.933 11.161,-10.049 11.282,-10.179 11.365,-10.346 11.418,-10.574 11.447,-10.888 11.458,-11.311 11.459,-11.59 11.459,-12.677 11.273,-12.761 11.127,-12.823 11.054,-12.846 11.04,-12.778 11.029,-12.595 11.023,-12.328 11.021,-12.116 11.015,-11.81 10.999,-11.567 10.974,-11.418 10.955,-11.386 10.826,-11.419 10.623,-11.501 10.388,-11.614 10.162,-11.734 9.988,-11.842 9.907,-11.917 9.906,-11.917 9.913,-12.055 9.976,-12.186 10.086,-12.292 10.247,-12.328 10.385,-12.324 10.58,-12.321 10.682,-12.366 10.743,-12.487 10.751,-12.51 10.778,-12.681 10.706,-12.786 10.521,-12.836 10.32,-12.845 9.96,-12.777 9.773,-12.679 9.542,-12.45 9.42,-12.169 9.409,-11.873 9.513,-11.596 9.668,-11.423 9.823,-11.326 10.067,-11.203 10.352,-11.078 10.399,-11.059 10.711,-10.921 10.891,-10.8 10.949,-10.679 10.895,-10.543 10.802,-10.437 10.583,-10.307 10.341,-10.297 10.12,-10.398 9.96,-10.598 9.94,-10.65 9.818,-10.841 9.64,-10.982 9.416,-11.098 9.416,-10.769 9.429,-10.568 9.485,-10.409 9.611,-10.24 9.731,-10.11 9.919,-9.926 10.065,-9.827 10.221,-9.787 10.398,-9.78
  region: 347 vertices and 0 holes, not listed, extent -11.532,-6.861 11.532,13.868

## OSHW-Logo2_36.5x30mm_SilkScreen [mm]
F.SilkS:
  drawing of 13 lines, arcs and shapes, not listed

## OSHW-Logo2_48.7x40mm_Copper [mm]
F.Cu:
  region: 17.786,-13.133 17.902,-13.184 18.18,-13.404 18.417,-13.722 18.564,-14.061 18.588,-14.229 18.508,-14.462 18.332,-14.586 18.143,-14.661 18.057,-14.674 18.015,-14.574 17.932,-14.357 17.896,-14.258 17.692,-13.918 17.396,-13.748 17.017,-13.753 16.989,-13.76 16.787,-13.856 16.638,-14.043 16.537,-14.344 16.476,-14.782 16.449,-15.38 16.447,-15.698 16.446,-16.2 16.437,-16.542 16.416,-16.759 16.374,-16.886 16.306,-16.959 16.205,-17.012 16.199,-17.015 16.004,-17.098 15.907,-17.128 15.892,-17.036 15.879,-16.782 15.87,-16.398 15.864,-15.918 15.863,-15.566 15.869,-14.885 15.891,-14.369 15.939,-13.987 16.019,-13.709 16.139,-13.504 16.309,-13.343 16.476,-13.231 16.878,-13.082 17.345,-13.048
  region: -8.609,-12.926 -8.296,-13.106 -8.079,-13.286 -7.92,-13.474 -7.811,-13.703 -7.742,-14.008 -7.705,-14.422 -7.69,-14.977 -7.688,-15.376 -7.688,-16.846 -8.102,-17.031 -8.515,-17.216 -8.564,-15.607 -8.584,-15.006 -8.605,-14.57 -8.631,-14.268 -8.667,-14.072 -8.715,-13.951 -8.781,-13.876 -8.802,-13.86 -9.12,-13.732 -9.443,-13.783 -9.634,-13.916 -9.713,-14.011 -9.767,-14.136 -9.801,-14.324 -9.82,-14.611 -9.828,-15.032 -9.829,-15.47 -9.829,-16.02 -9.839,-16.409 -9.87,-16.672 -9.937,-16.841 -10.051,-16.952 -10.227,-17.038 -10.461,-17.128 -10.717,-17.225 -10.687,-15.498 -10.675,-14.875 -10.66,-14.415 -10.64,-14.085 -10.609,-13.854 -10.563,-13.689 -10.499,-13.558 -10.422,-13.442 -10.049,-13.073 -9.595,-12.859 -9.101,-12.808
  region: 3.553,-13.073 3.995,-13.236 4.353,-13.525 4.493,-13.728 4.646,-14.101 4.643,-14.37 4.483,-14.551 4.423,-14.582 4.167,-14.678 4.037,-14.654 3.992,-14.492 3.99,-14.403 3.909,-14.075 3.698,-13.846 3.404,-13.735 3.076,-13.763 2.809,-13.908 2.719,-13.99 2.655,-14.09 2.611,-14.242 2.584,-14.478 2.565,-14.833 2.551,-15.34 2.548,-15.501 2.534,-16.05 2.519,-16.437 2.497,-16.693 2.461,-16.85 2.406,-16.939 2.326,-16.994 2.275,-17.018 2.059,-17.101 1.932,-17.128 1.89,-17.037 1.864,-16.762 1.855,-16.3 1.861,-15.647 1.863,-15.547 1.878,-14.951 1.895,-14.516 1.92,-14.208 1.957,-13.993 2.01,-13.836 2.085,-13.704 2.124,-13.647 2.349,-13.397 2.6,-13.202 2.63,-13.185 3.08,-13.051
  region: 11.934,-13.133 11.949,-13.389 11.96,-13.778 11.968,-14.269 11.97,-14.785 11.97,-16.529 11.662,-16.837 11.45,-17.027 11.264,-17.104 11.009,-17.099 10.908,-17.086 10.592,-17.05 10.331,-17.03 10.267,-17.028 10.052,-17.04 9.745,-17.072 9.626,-17.086 9.334,-17.109 9.137,-17.06 8.942,-16.906 8.872,-16.837 8.564,-16.529 8.564,-13.266 8.812,-13.154 9.025,-13.07 9.15,-13.041 9.182,-13.133 9.212,-13.392 9.238,-13.788 9.258,-14.293 9.267,-14.719 9.294,-16.398 9.526,-16.431 9.737,-16.408 9.841,-16.334 9.87,-16.195 9.895,-15.898 9.913,-15.483 9.923,-14.985 9.925,-14.729 9.926,-13.254 10.233,-13.147 10.45,-13.075 10.568,-13.041 10.571,-13.041 10.583,-13.133 10.596,-13.388 10.609,-13.775 10.621,-14.263 10.63,-14.719 10.656,-16.398 11.24,-16.398 11.267,-14.867 11.294,-13.335 11.578,-13.188 11.789,-13.087 11.913,-13.041 11.917,-13.041
  region: -4.185,-12.413 -4.156,-12.811 -4.123,-13.045 -4.078,-13.147 -4.012,-13.149 -3.99,-13.136 -3.704,-13.048 -3.331,-13.053 -2.952,-13.144 -2.715,-13.262 -2.472,-13.449 -2.294,-13.662 -2.172,-13.932 -2.097,-14.292 -2.057,-14.775 -2.044,-15.414 -2.044,-15.537 -2.044,-16.914 -2.35,-17.021 -2.568,-17.094 -2.687,-17.128 -2.691,-17.128 -2.703,-17.036 -2.713,-16.783 -2.72,-16.402 -2.724,-15.926 -2.725,-15.637 -2.726,-15.066 -2.733,-14.657 -2.75,-14.377 -2.781,-14.192 -2.831,-14.07 -2.905,-13.978 -2.95,-13.933 -3.264,-13.754 -3.605,-13.741 -3.916,-13.892 -3.973,-13.947 -4.057,-14.05 -4.116,-14.172 -4.153,-14.348 -4.174,-14.614 -4.183,-15.005 -4.185,-15.543 -4.185,-16.914 -4.491,-17.021 -4.709,-17.094 -4.828,-17.128 -4.832,-17.128 -4.841,-17.035 -4.849,-16.772 -4.856,-16.365 -4.861,-15.838 -4.865,-15.217 -4.866,-14.526 -4.866,-14.496 -4.866,-11.863 -4.55,-11.73 -4.233,-11.597
  region: -19.839,-12.887 -19.383,-13.127 -19.046,-13.513 -18.927,-13.761 -18.834,-14.133 -18.786,-14.604 -18.782,-15.118 -18.818,-15.62 -18.893,-16.054 -19.004,-16.366 -19.038,-16.42 -19.442,-16.821 -19.922,-17.061 -20.443,-17.131 -20.97,-17.023 -21.116,-16.958 -21.401,-16.757 -21.652,-16.49 -21.676,-16.457 -21.772,-16.294 -21.835,-16.12 -21.873,-15.891 -21.891,-15.563 -21.896,-15.092 -21.897,-14.987 -21.896,-14.953 -21.893,-14.486 -21.878,-14.135 -21.844,-13.892 -21.786,-13.714 -21.697,-13.556 -21.678,-13.526 -21.347,-13.13 -20.986,-12.9 -20.547,-12.809 -20.398,-12.804 hole: -20.363,-13.722 -20.602,-13.76 -20.765,-13.891 -20.865,-14.141 -20.914,-14.537 -20.923,-14.953 -20.918,-15.398 -20.895,-15.692 -20.849,-15.883 -20.769,-16.014 -20.729,-16.057 -20.496,-16.224 -20.27,-16.216 -20.041,-16.072 -19.905,-15.918 -19.824,-15.693 -19.779,-15.338 -19.776,-15.297 -19.768,-14.654 -19.849,-14.176 -20.017,-13.867 -20.272,-13.729
  region: 21.145,-13.188 21.53,-13.44 21.716,-13.665 21.863,-14.074 21.874,-14.398 21.848,-14.83 20.85,-15.267 20.365,-15.49 20.048,-15.669 19.884,-15.825 19.855,-15.976 19.947,-16.142 20.048,-16.252 20.341,-16.429 20.661,-16.441 20.954,-16.303 21.17,-16.03 21.208,-15.933 21.393,-15.632 21.605,-15.503 21.897,-15.393 21.897,-15.81 21.871,-16.094 21.77,-16.333 21.558,-16.608 21.527,-16.644 21.292,-16.888 21.089,-17.019 20.836,-17.079 20.627,-17.099 20.252,-17.104 19.985,-17.042 19.818,-16.949 19.556,-16.745 19.375,-16.525 19.26,-16.248 19.198,-15.874 19.174,-15.363 19.172,-15.104 19.179,-14.793 19.185,-14.498 19.231,-14.05 19.323,-13.723 19.472,-13.483 19.69,-13.293 19.785,-13.231 20.216,-13.071 20.688,-13.061 hole: 20.647,-13.721 20.318,-13.746 20.043,-13.932 19.852,-14.263 19.791,-14.525 19.766,-14.793 19.773,-14.96 19.79,-14.987 19.902,-14.95 20.143,-14.852 20.466,-14.712 20.533,-14.682 20.941,-14.475 21.165,-14.293 21.214,-14.122 21.096,-13.95 20.999,-13.873
  region: 7.98,-13.848 7.978,-14.576 7.974,-15.135 7.963,-15.554 7.945,-15.858 7.918,-16.075 7.879,-16.231 7.826,-16.353 7.786,-16.423 7.455,-16.802 7.035,-17.04 6.571,-17.125 6.106,-17.047 5.829,-16.907 5.538,-16.665 5.34,-16.369 5.221,-15.981 5.166,-15.464 5.158,-15.084 5.159,-15.057 5.182,-14.473 5.262,-14.014 5.412,-13.669 5.646,-13.4 5.829,-13.262 6.161,-13.112 6.546,-13.043 6.904,-13.062 7.104,-13.136 7.183,-13.158 7.235,-13.078 7.271,-12.866 7.299,-12.542 7.329,-12.182 7.371,-11.965 7.447,-11.841 7.58,-11.759 7.664,-11.723 7.98,-11.59 hole: 6.452,-13.737 6.127,-13.88 6.064,-13.933 5.958,-14.051 5.891,-14.192 5.855,-14.401 5.841,-14.725 5.839,-15.057 5.843,-15.492 5.862,-15.78 5.906,-15.969 5.984,-16.105 6.078,-16.208 6.392,-16.406 6.73,-16.423 7.049,-16.258 7.074,-16.235 7.18,-16.118 7.246,-15.979 7.282,-15.773 7.297,-15.452 7.299,-15.098 7.294,-14.653 7.273,-14.356 7.228,-14.161 7.151,-14.021 7.087,-13.947 6.792,-13.76
  region: -12.281,-12.949 -11.898,-13.207 -11.601,-13.58 -11.424,-14.054 -11.388,-14.403 -11.392,-14.549 -11.426,-14.661 -11.52,-14.761 -11.703,-14.871 -12.005,-15.016 -12.454,-15.216 -12.457,-15.217 -12.871,-15.407 -13.21,-15.575 -13.441,-15.704 -13.527,-15.776 -13.451,-15.932 -13.273,-16.104 -13.069,-16.228 -12.965,-16.252 -12.682,-16.167 -12.439,-15.954 -12.32,-15.72 -12.206,-15.548 -11.982,-15.351 -11.719,-15.182 -11.487,-15.089 -11.439,-15.084 -11.384,-15.168 -11.381,-15.381 -11.421,-15.669 -11.497,-15.975 -11.6,-16.245 -11.605,-16.255 -11.916,-16.689 -12.319,-16.984 -12.777,-17.129 -13.251,-17.112 -13.706,-16.922 -13.727,-16.909 -14.084,-16.584 -14.32,-16.161 -14.45,-15.605 -14.467,-15.449 -14.498,-14.711 -14.461,-14.367 -14.435,-14.121 -14.271,-13.653 -14.044,-13.325 -13.634,-12.993 -13.182,-12.829 -12.72,-12.819 hole: -13.049,-13.731 -13.302,-13.857 -13.477,-14.1 -13.527,-14.367 -13.515,-14.582 -13.449,-14.644 -13.283,-14.597 -13.022,-14.487 -12.731,-14.348 -12.724,-14.344 -12.477,-14.214 -12.377,-14.127 -12.402,-14.037 -12.505,-13.917 -12.767,-13.744
  region: 0.266,-13.081 0.648,-13.223 0.652,-13.226 0.888,-13.399 1.062,-13.602 1.185,-13.866 1.265,-14.224 1.315,-14.708 1.343,-15.351 1.345,-15.442 1.38,-16.822 1.084,-16.975 0.87,-17.078 0.741,-17.127 0.735,-17.128 0.712,-17.038 0.695,-16.793 0.684,-16.437 0.681,-16.148 0.681,-15.681 0.66,-15.387 0.585,-15.247 0.426,-15.24 0.149,-15.346 -0.268,-15.541 -0.574,-15.703 -0.732,-15.843 -0.778,-15.996 -0.779,-16.004 -0.702,-16.268 -0.475,-16.41 -0.129,-16.431 0.121,-16.427 0.253,-16.499 0.335,-16.672 0.382,-16.892 0.314,-17.017 0.288,-17.035 0.047,-17.107 -0.291,-17.117 -0.639,-17.069 -0.886,-16.982 -1.227,-16.693 -1.421,-16.289 -1.46,-15.974 -1.43,-15.69 -1.324,-15.458 -1.114,-15.252 -0.773,-15.046 -0.274,-14.813 -0.243,-14.8 0.207,-14.592 0.484,-14.421 0.603,-14.268 0.577,-14.112 0.42,-13.933 0.373,-13.892 0.058,-13.732 -0.269,-13.739 -0.553,-13.896 -0.742,-14.186 -0.759,-14.242 -0.93,-14.518 -1.147,-14.651 -1.46,-14.783 -1.46,-14.442 -1.364,-13.947 -1.082,-13.493 -0.935,-13.341 -0.6,-13.146 -0.175,-13.057
  region: -16.094,-12.873 -15.722,-13.058 -15.394,-13.4 -15.303,-13.526 -15.205,-13.692 -15.141,-13.871 -15.104,-14.111 -15.088,-14.457 -15.084,-14.914 -15.101,-15.539 -15.157,-16.009 -15.266,-16.36 -15.439,-16.627 -15.686,-16.849 -15.705,-16.862 -15.949,-16.997 -16.243,-17.063 -16.617,-17.079 -17.225,-17.079 -17.225,-17.67 -17.231,-17.998 -17.265,-18.191 -17.355,-18.307 -17.528,-18.404 -17.569,-18.424 -17.763,-18.517 -17.913,-18.576 -18.025,-18.581 -18.103,-18.513 -18.154,-18.352 -18.181,-18.079 -18.192,-17.676 -18.19,-17.121 -18.182,-16.396 -18.179,-16.179 -18.169,-15.432 -18.161,-14.943 -18.159,-14.853 -18.146,-14.418 -18.127,-14.1 -18.101,-13.875 -18.064,-13.715 -18.015,-13.596 -17.951,-13.492 -17.923,-13.453 -17.558,-13.083 -17.095,-12.873 -16.561,-12.814 hole: -16.598,-13.722 -16.871,-13.772 -17.059,-13.935 -17.171,-14.235 -17.221,-14.691 -17.225,-14.943 -17.22,-15.358 -17.197,-15.629 -17.144,-15.808 -17.05,-15.946 -16.986,-16.013 -16.726,-16.21 -16.496,-16.226 -16.258,-16.063 -16.252,-16.057 -16.155,-15.932 -16.097,-15.762 -16.067,-15.499 -16.058,-15.098 -16.057,-15.009 -16.08,-14.455 -16.153,-14.072 -16.284,-13.838 -16.483,-13.732
  region: 14.381,-13.117 14.662,-13.245 14.881,-13.399 15.043,-13.572 15.154,-13.795 15.224,-14.099 15.262,-14.518 15.277,-15.082 15.279,-15.453 15.279,-16.902 15.031,-17.015 14.836,-17.098 14.739,-17.128 14.721,-17.038 14.706,-16.794 14.697,-16.438 14.695,-16.155 14.687,-15.746 14.665,-15.422 14.632,-15.224 14.607,-15.182 14.434,-15.225 14.164,-15.335 13.85,-15.485 13.55,-15.646 13.317,-15.79 13.209,-15.889 13.208,-15.89 13.218,-16.073 13.301,-16.248 13.448,-16.39 13.663,-16.437 13.846,-16.432 14.106,-16.427 14.242,-16.488 14.324,-16.649 14.335,-16.679 14.37,-16.909 14.275,-17.048 14.028,-17.114 13.761,-17.126 13.28,-17.036 13.031,-16.906 12.723,-16.6 12.56,-16.226 12.546,-15.83 12.683,-15.461 12.891,-15.23 13.098,-15.101 13.423,-14.937 13.802,-14.771 13.865,-14.746 14.282,-14.562 14.522,-14.4 14.599,-14.239 14.527,-14.058 14.403,-13.916 14.11,-13.742 13.788,-13.729 13.493,-13.863 13.281,-14.131 13.253,-14.2 13.09,-14.454 12.853,-14.643 12.554,-14.797 12.554,-14.359 12.572,-14.091 12.647,-13.879 12.815,-13.654 12.975,-13.48 13.225,-13.234 13.419,-13.102 13.628,-13.049 13.864,-13.041
  region: 347 vertices and 0 holes, not listed, extent -15.376,-9.148 15.376,18.49

## OSHW-Logo2_48.7x40mm_SilkScreen [mm]
F.SilkS:
  drawing of 13 lines, arcs and shapes, not listed